# EAGLE library part TPS63031 (library SparkFun-IC-Power)
TPS63031 Buck/Boost Regulator Output: 3.3V Vin: 1.8-5.5V Iout Max: 900mA Datasheet <https://www.ti.com/lit/ds/symlink/tps63030.pdf?HQS>
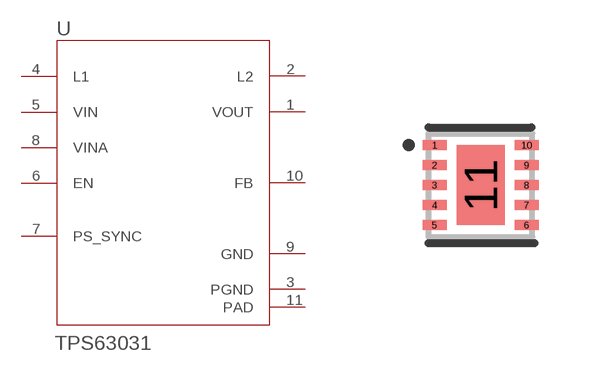
[diagram p28: symbol with the pads of WFDFN-10-PAD; footprint WFDFN-10-PAD]

Designator prefix U

## TPS63031 (PROD_ID: IC-15417; VALUE: TPS63031)  [WFDFN-10-PAD]
1  VOUT  pwr
2  L2  pas
3  PGND  pwr
4  L1  pas
5  VIN  pwr
6  EN  in
7  PS_SYNC  in
8  VINA  pwr
9  GND  pwr
10  FB  in
11  PAD  pwr

## Footprint WFDFN-10-PAD (pad centres in mm)
smd 0.6 x 0.25: 1 -1.15,1; 2 -1.15,0.5; 3 -1.15,0; 4 -1.15,-0.5; 5 -1.15,-1; 6 1.15,-1; 7 1.15,-0.5; 8 1.15,0; 9 1.15,0.5; 10 1.15,1
smd 1.2 x 2: 11 0,0